# EAGLE library part CAT25256LI-G (library on-semiconductor-01)
SPI Serial CMOS EEPROM
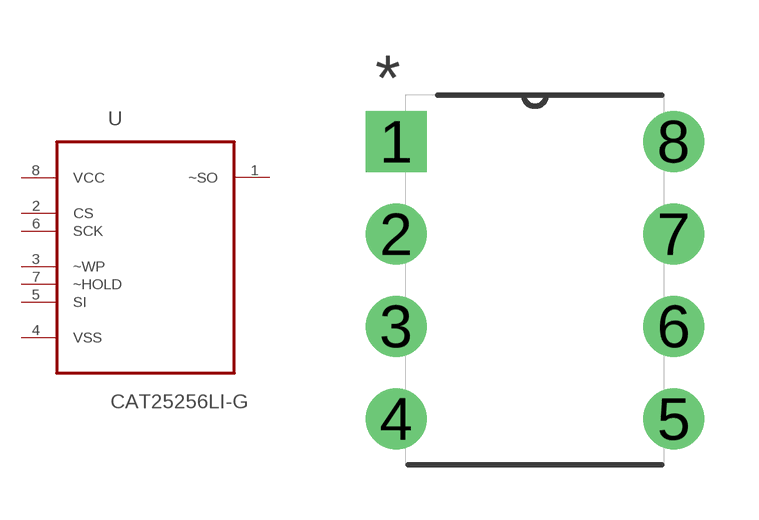
[diagram p17: symbol with the pads of DIP254P762X533-8; footprint DIP254P762X533-8]

Designator prefix U

## CAT25256LI-G (MPN: CAT25256LI-G; OC_FARNELL: 1718050; OC_NEWARK: 06R0614; PACKAGE: PDIP; SUPPLIER: ON SEMICONDUCTOR)  [DIP254P762X533-8]
1  ~SO  out
2  CS  in
3  ~WP  in
4  VSS  pas
5  SI  in
6  SCK  in
7  ~HOLD  in
8  VCC  pwr

## Footprint DIP254P762X533-8 (pad centres in mm)
drill 1.118 square: 1 -7.62,7.62
drill 1.118: 2 -7.62,5.08; 3 -7.62,2.54; 4 -7.62,0; 5 0,0; 6 0,2.54; 7 0,5.08; 8 0,7.62